# EAGLE library part AUDIO-POTS_ALPS_RK0971221Z0* (library Pakfa)
ALPS RK0971221Z Dual-gang 9mm potentiometer for volume control, with SPST switch -05 model: 10K with "volume" taper -0N model: 50K with traditional audio taper
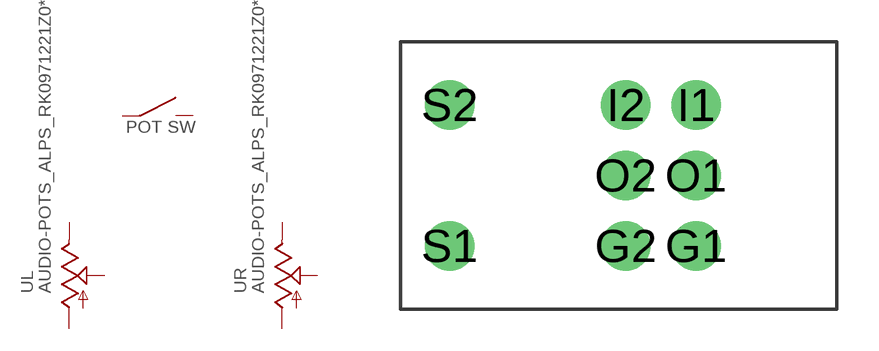
[diagram p0: symbol with the pads of AUDIO-POTS_ALPS_RK0971221Z0X; footprint AUDIO-POTS_ALPS_RK0971221Z0X]

Designator prefix -; gates G$3=AUDIO-POTS_SWITCH L=AUDIO-POTS_POT R=AUDIO-POTS_POT

## AUDIO-POTS_ALPS_RK0971221Z0, AUDIO-POTS_ALPS_RK0971221Z05, AUDIO-POTS_ALPS_RK0971221Z0N  [AUDIO-POTS_ALPS_RK0971221Z0X]
G1  L:1  pas
G2  R:1  pas
I1  L:3  pas
I2  R:3  pas
O1  L:2  pas
O2  R:2  pas
S1  G$3:S1  pwr
S2  G$3:S2  pwr

## Footprint AUDIO-POTS_ALPS_RK0971221Z0X (pad centres in mm)
ALPS RK0971221Z0x potentiometer
drill 1.016 pad 1.778: G1 2.54,-2.54; G2 0,-2.54; I1 2.54,2.54; I2 0,2.54; O1 2.54,0; O2 0,0; S1 -6.35,-2.54; S2 -6.35,2.54